# Altium footprint library generic.PcbLib: 24 footprints (part 1 of 2)
Each footprint in its own frame and in the unit in brackets; x right, y up, seen from the top. Pads: shape width x height; smd on the part's side, far side on the other; paste and mask are expansions set on the pad; w line width, h text height; cw(c..) or ccw(c..) is an arc to the next point about the centre after c.
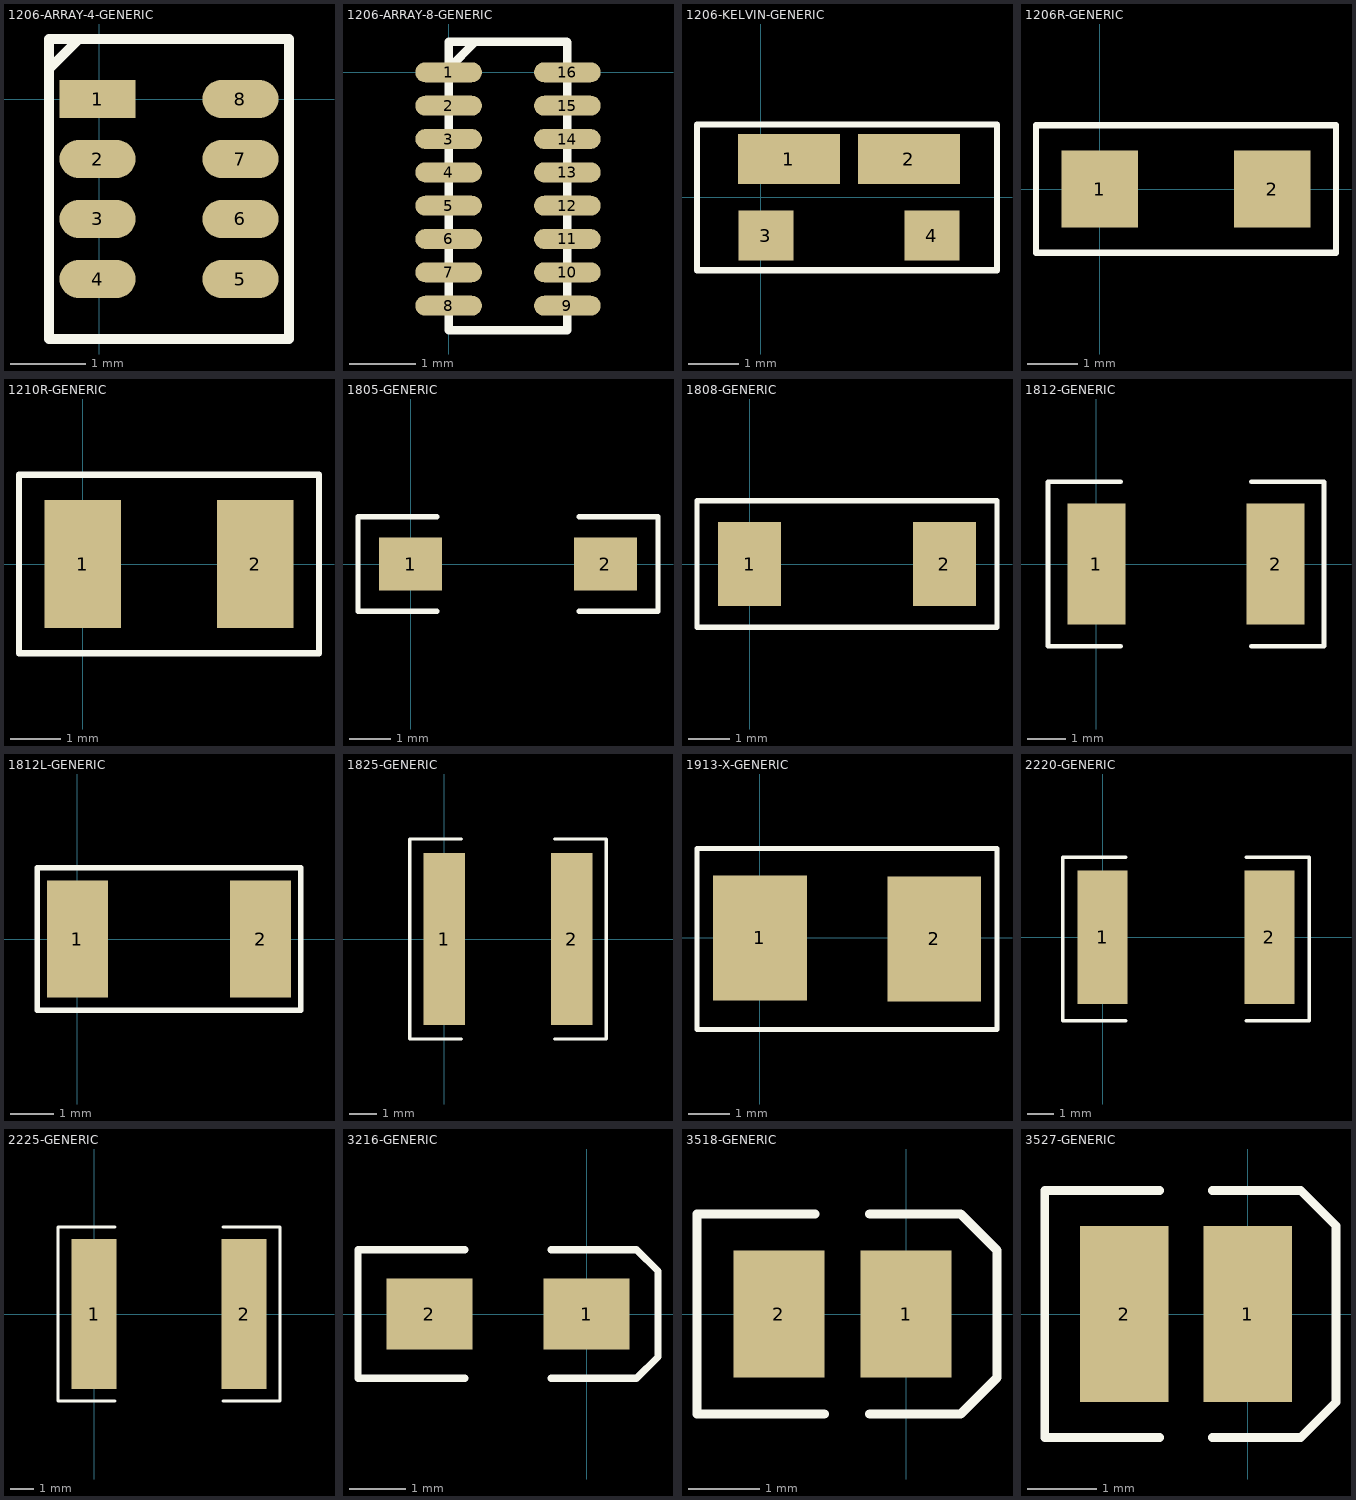
[diagram p0: the footprints below, top view; thin cyan lines are the x and y axes]

## 1206-ARRAY-4-GENERIC [mil]
pads (8):
  rect 40x20 smd: 1(-1,0)
  oval 40x20 smd: 2(-1,-31.5) 3(-1,-62.99) 4(-1,-94.49) 5(73.99,-94.49) 6(73.99,-62.99) 7(73.99,-31.5) 8(73.99,0)
Top Overlay:
  lines w5: -26.5,19 -26.5,15.75 ; -26.5,23 -26.5,15.75 ; -18,31.5 -10,31.5 -10.75,31.5 -26.5,15.75 ; -14,31.5 -17,31.5 -26.5,31.5 ; -26.5,15.75 -26.5,31.5 ; -26.5,15.75 -26.5,-125.98 99.49,-125.98 99.49,31.5 -26.5,31.5 ; -26.5,15.75 -26.5,31.5
3D body: height 26, standoff 0, extent 75.99,-8 79.99,8
3D body: height 26, standoff 0, extent 75.99,-39.5 79.99,-23.5
3D body: height 26, standoff 0, extent 75.99,-70.99 79.99,-54.99
3D body: height 26, standoff 0, extent 75.99,-102.49 79.99,-86.49
3D body: height 26, standoff 0, extent -6,-103 -2,-87
3D body: height 26, standoff 0, extent -6,-71 -2,-55
3D body: height 26, standoff 0, extent -6,-39 -2,-23
3D body: height 26, standoff 25, extent -2,-7 76,6
3D body: height 26, standoff 0, extent -6,-8 -2,8
3D body: height 25, standoff 0, extent -5,-113 78.24,20
3D body: height 26, standoff 25, extent -2,-39 76,-24
3D body: height 26, standoff 25, extent -2,-70 76,-56
3D body: height 26, standoff 25, extent -2,-102 76,-87
3D body: height 26, standoff 25, extent 3,-15 70,13
3D body: height 26, standoff 25, extent 3,-47 70,-19
3D body: height 26, standoff 25, extent 3,-78 70,-50
3D body: height 26, standoff 25, extent 3,-110 70,-82

## 1206-ARRAY-8-GENERIC [mm]
pads (16):
  oval 1x0.3 smd: 1(0,0) 2(0,-0.5) 3(0,-1) 4(0,-1.5) 5(0,-2) 6(0,-2.5) 7(0,-3) 8(0,-3.5) 9(1.781,-3.5) 10(1.781,-3) 11(1.781,-2.5) 12(1.781,-2) 13(1.781,-1.5) 14(1.781,-1) 15(1.781,-0.5) 16(1.781,0)
Top Overlay:
  lines w0.127: 0.221,0.461 0.424,0.461 0.405,0.461 0.005,0.061 ; 0.322,0.461 0.246,0.461 0.005,0.461 ; 0.005,0.061 0.005,0.461 ; 0.005,0.061 0.005,-3.869 1.782,-3.869 1.782,0.453 1.774,0.461 0.005,0.461 ; 0.005,0.061 0.005,0.461
3D body: height 0.66, standoff 0, extent 1.867,-3.632 1.968,-3.378
3D body: height 0.66, standoff 0.64, extent -0.114,-3.581 1.867,-3.429
3D body: height 0.66, standoff 0, extent -0.216,-3.632 -0.114,-3.378
3D body: height 0.66, standoff 0.64, extent 0.013,-3.632 1.714,-3.378
3D body: height 0.66, standoff 0, extent 1.867,-3.137 1.968,-2.883
3D body: height 0.66, standoff 0.64, extent -0.114,-3.086 1.867,-2.934
3D body: height 0.66, standoff 0, extent -0.216,-3.137 -0.114,-2.883
3D body: height 0.66, standoff 0.64, extent 0.013,-3.137 1.714,-2.883
3D body: height 0.66, standoff 0, extent 1.879,-2.629 1.981,-2.375
3D body: height 0.66, standoff 0.64, extent -0.102,-2.578 1.88,-2.426
3D body: height 0.66, standoff 0, extent -0.203,-2.629 -0.102,-2.375
3D body: height 0.66, standoff 0.64, extent 0.025,-2.629 1.727,-2.375
3D body: height 0.66, standoff 0, extent 1.892,-2.134 1.994,-1.88
3D body: height 0.66, standoff 0.64, extent -0.089,-2.083 1.892,-1.93
3D body: height 0.66, standoff 0, extent -0.191,-2.134 -0.089,-1.88
3D body: height 0.66, standoff 0.64, extent 0.038,-2.134 1.74,-1.88
3D body: height 0.66, standoff 0, extent 1.892,-1.626 1.994,-1.372
3D body: height 0.66, standoff 0.64, extent -0.089,-1.575 1.892,-1.422
3D body: height 0.66, standoff 0, extent -0.191,-1.626 -0.089,-1.372
3D body: height 0.66, standoff 0.64, extent 0.038,-1.626 1.74,-1.372
3D body: height 0.66, standoff 0, extent 1.879,-1.13 1.981,-0.876
3D body: height 0.66, standoff 0.64, extent -0.102,-1.079 1.88,-0.927
3D body: height 0.66, standoff 0, extent -0.203,-1.13 -0.102,-0.876
3D body: height 0.66, standoff 0.64, extent 0.025,-1.13 1.727,-0.876
3D body: height 0.66, standoff 0, extent 1.879,-0.635 1.981,-0.381
3D body: height 0.66, standoff 0.64, extent -0.102,-0.584 1.88,-0.432
3D body: height 0.66, standoff 0, extent -0.203,-0.635 -0.102,-0.381
3D body: height 0.66, standoff 0.64, extent 0.025,-0.635 1.727,-0.381
3D body: height 0.66, standoff 0.64, extent 0.025,-0.127 1.727,0.127
3D body: height 0.66, standoff 0, extent -0.203,-0.127 -0.102,0.127
3D body: height 0.66, standoff 0.64, extent -0.102,-0.076 1.88,0.076
3D body: height 0.66, standoff 0, extent 1.879,-0.127 1.981,0.127
3D body: height 0.64, standoff 0, extent 0,-3.873 1.778,0.457
3D body: height 0.64, standoff 0, extent -0.102,-0.102 1.88,0.102
3D body: height 0.64, standoff 0, extent -0.102,-0.61 1.88,-0.406
3D body: height 0.64, standoff 0, extent -0.102,-1.105 1.88,-0.902
3D body: height 0.64, standoff 0, extent -0.089,-1.6 1.892,-1.397
3D body: height 0.64, standoff 0, extent -0.089,-2.108 1.892,-1.905
3D body: height 0.64, standoff 0, extent -0.102,-2.603 1.88,-2.4
3D body: height 0.64, standoff 0, extent -0.114,-3.111 1.867,-2.908
3D body: height 0.64, standoff 0, extent -0.114,-3.607 1.867,-3.404

## 1206-KELVIN-GENERIC [mil]
pads (4):
  rect 80x39.37 smd: 1(22,30) 2(116,30)
  rect 43.31x39.37 smd: 3(4,-30) 4(134,-30)
Top Overlay:
  lines w5: -50,-57 185,-57 185,57 -50,57 -50,-57
3D body: height 26, standoff 0, extent -6,-41 26,-32
3D body: height 26, standoff 0, extent 112,-41 141,-32
3D body: height 26, standoff 0, extent 112,34 141,42
3D body: height 26, standoff 0, extent -6,34 25,42
3D body: height 26, standoff 25, extent -1,-36 135,37
3D body: height 25, standoff 2, extent -5,-40 140,41

## 1206R-GENERIC [mil]
pads (2):
  rect 60x60 smd: 1(0,0) 2(135,0)
Top Overlay:
  lines w5: -50,-50 -50,50 185,50 185,-50 -50,-50

## 1210R-GENERIC [mil]
pads (2):
  rect 60x100 smd: 1(0,0) 2(135,0)
Top Overlay:
  lines w5: -50,-70 -50,70 185,70 185,-70 -50,-70

## 1805-GENERIC [mil]
pads (2):
  rect 60x50 smd: 1(0,0) 2(185,0)
Top Overlay:
  lines w5: 25,-45 -50,-45 -50,45 25,45 ; 160,-45 235,-45 235,45 160,45

## 1808-GENERIC [mil]
pads (2):
  rect 60x80 smd: 1(0,0) 2(185,0)
Top Overlay:
  lines w5: -50,-60 -50,60 160,60 235,60 235,-60 160,-60 -50,-60

## 1812-GENERIC [mil]
pads (2):
  rect 60x125 smd: 1(0,0) 2(185,0)
Top Overlay:
  lines w5: 25,-85 -50,-85 -50,85 25,85 ; 160,-85 235,-85 235,85 160,85

## 1812L-GENERIC [mil]
pads (2):
  rect 55x105 smd: 1(0,0) 2(165,0)
Top Overlay:
  lines w5: -36,-64 -36,0 -36,64 -14,64 179,64 201,64 201,0 201,-64 179,-64 -14,-64 -36,-64

## 1825-GENERIC [mil]
pads (2):
  rect 60x250 smd: 1(0,0) 2(185,0)
Top Overlay:
  lines w5: 25,-145 -50,-145 -50,145 25,145 ; 160,-145 235,-145 235,145 160,145

## 1913-X-GENERIC [mil]
pads (2):
  rect 90x120 smd: 1(0,0) 2(167,-1)
Top Overlay:
  lines w5: -60.28,-87.61 227.13,-87.61 227.13,85.61 -60.28,85.61 -60.28,-87.61

## 2220-GENERIC [mil]
pads (2):
  rect 75x200 smd: 1(0,0) 2(250,0)
Top Overlay:
  lines w5: 35,-125 -60,-125 -60,120 35,120 ; 215,-125 310,-125 310,120 215,120

## 2225-GENERIC [mil]
pads (2):
  rect 75x250 smd: 1(0,0) 2(250,0)
Top Overlay:
  lines w5: 35,-145 -60,-145 -60,145 35,145 ; 215,-145 310,-145 310,145 215,145

## 3216-GENERIC [mil]
pads (2):
  rect 60x50 smd: 1(0,0) 2(-110,0)
Top Overlay:
  lines w5: -85,-45 -160,-45 -160,45 -85,45 ; -25,-45 35,-45 50,-30 50,30 35,45 -25,45

## 3518-GENERIC [mil]
pads (2):
  rect 50x70 smd: 1(0,0) 2(-70,0)
Top Overlay:
  lines w5: -50,55 -115,55 -115,-55 -45,-55 ; -20,-55 30,-55 50,-35 50,35 30,55 -20,55

## 3527-GENERIC [mil]
pads (2):
  rect 50x100 smd: 1(0,0) 2(-70,0)
Top Overlay:
  lines w5: -50,-70 -115,-70 -115,70 -50,70 ; -20,-70 30,-70 50,-50 50,50 30,70 -20,70